# Altium schematic symbol library LSF0102DDFR.SchLib: 1 symbol
Pins are listed as number, name and electrical type; pins without a type are passive.

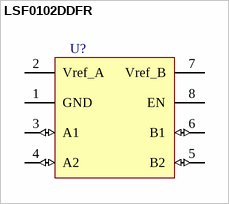
[diagram p0: symbol LSF0102DDFR]

## LSF0102DDFR
designator U?
two Channel Auto-Bidirectional Multi-Voltage Level Translator
pins: 1 GND (power), 2 Vref_A (power), 3 A1 (io), 4 A2 (io), 5 B2 (io), 6 B1 (io), 7 Vref_B (power), 8 EN